# EAGLE library part MD8831_MD8832 (library m-pad)
M-System's DiskOnChip G4 128MB (1Gb)/256MB (2Gb) 1.8V Flash Disk with MLC NAND and M-Systems x2 Technology Description: DiskOnChip G4 is M-Systems' 4th generation of the DiskOnChip family of products. Based on Multi-Level Cell (MLC) NAND, utilizing Toshiba's 90nm MLC NAND Large Block flash technology and x2 technology from MSystems, it is one of the industry's most efficient storage solutions. MLC NAND flash technology provides the smallest die size by storing 2 bits of information in a single memory cell. x2 technology enables MLC NAND to achieve highly reliable, high-performance data and code storage with a specially designed error detection and correction mechanism, optimized file management, and proprietary algorithms for enhanced performance. Further cost benefits derive from the cost-effective architecture of DiskOnChip G4, which includes a boot block that can replace expensive NOR flash, and incorporates both the flash array and an embedded thin controller in a single die. Features: Flash disk for both code and data storage Low voltage: 1.8V core and I/O Hardware protection and security-enabling features High capacity: single die - 1Gb (128MB), dual die - 2Gb (256MB) Device cascade capacity: up to 4Gb (512MB) Enhanced Programmable Boot Block enabling eXecute In Place (XIP) functionality using 16-bit interface Small form factors: 69-ball FBGA 9x12 mm package Enhanced performance by implementation of: DMA support MultiBurst operation Unrivaled data integrity with a robust Error Detection Code/Error Correction Code (EDC/ECC) tailored for MLC NAND flash technology Maximized flash endurance with TrueFFS® 6.3.2 (and higher) Support for major operating systems (OSs): - Symbian OS - Microsoft Windows Mobile - Palm OS - Nucleus - Linux - OSE - Windows CE - and more Compatible with major CPUs: - TI OMAP - TI DBB - Intel XScale - Infinion - EGold and SGold - ADI 652x - Freescale MX - Qualcomm MSMxxxx. Please send any comments to: messi@users.sourceforge.net
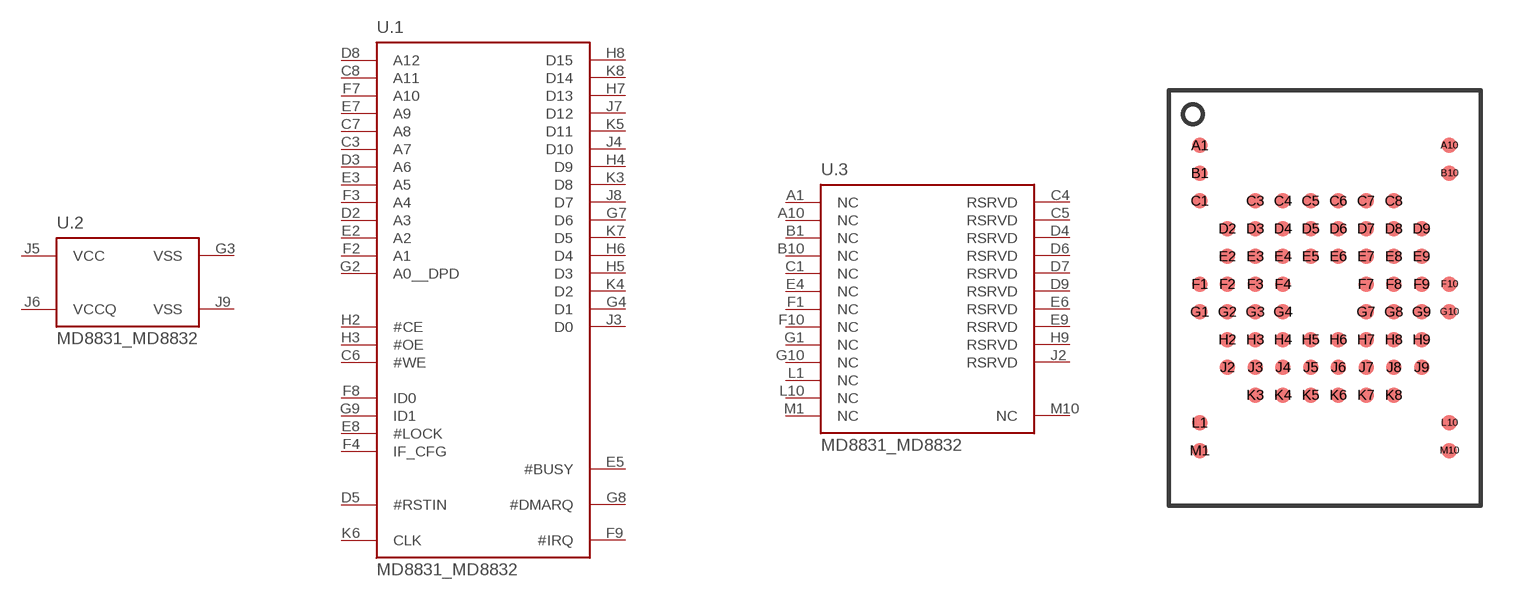
[diagram p183: symbol with the pads of 69FBGA; footprint 69FBGA]

Designator prefix U; gates .1=MD8831_MD8832 .2=MD8831_MD8832_PWR .3=MD8831_MD8832_NC

## MD8831_MD8832-D**G-V**-X-P  [69FBGA]
A1  .3:NC  nc
A10  .3:NC  nc
B1  .3:NC  nc
B10  .3:NC  nc
C1  .3:NC  nc
C3  .1:A7  in
C4  .3:RSRVD  nc
C5  .3:RSRVD  nc
C6  .1:#WE  in
C7  .1:A8  in
C8  .1:A11  in
D2  .1:A3  in
D3  .1:A6  in
D4  .3:RSRVD  nc
D5  .1:#RSTIN  in
D6  .3:RSRVD  nc
D7  .3:RSRVD  nc
D8  .1:A12  in
D9  .3:RSRVD  nc
E2  .1:A2  in
E3  .1:A5  in
E4  .3:NC  nc
E5  .1:#BUSY  out
E6  .3:RSRVD  nc
E7  .1:A9  in
E8  .1:#LOCK  in
E9  .3:RSRVD  nc
F1  .3:NC  nc
F2  .1:A1  in
F3  .1:A4  in
F4  .1:IF_CFG  in
F7  .1:A10  in
F8  .1:ID0  in
F9  .1:#IRQ  out
F10  .3:NC  nc
G1  .3:NC  nc
G2  .1:A0__DPD  in
G3  .2:VSS  pwr
G4  .1:D1
G7  .1:D6
G8  .1:#DMARQ  out
G9  .1:ID1  in
G10  .3:NC  nc
H2  .1:#CE  in
H3  .1:#OE  in
H4  .1:D9
H5  .1:D3
H6  .1:D4
H7  .1:D13
H8  .1:D15
H9  .3:RSRVD  nc
J2  .3:RSRVD  nc
J3  .1:D0
J4  .1:D10
J5  .2:VCC  pwr
J6  .2:VCCQ  pwr
J7  .1:D12
J8  .1:D7
J9  .2:VSS  pwr
K3  .1:D8
K4  .1:D2
K5  .1:D11
K6  .1:CLK  in
K7  .1:D5
K8  .1:D14
L1  .3:NC  nc
L10  .3:NC  nc
M1  .3:NC  nc
M10  .3:NC  nc

## Footprint 69FBGA (pad centres in mm)
69FBGA PAckage for the M-Systems mDoc G4
smd 0.45 x 0.45: A1 -3.6,4.4; A10 3.6,4.4; B1 -3.6,3.6; B10 3.6,3.6; C1 -3.6,2.8; C3 -2,2.8; C4 -1.2,2.8; C5 -0.4,2.8; C6 0.4,2.8; C7 1.2,2.8; C8 2,2.8; D2 -2.8,2; D3 -2,2; D4 -1.2,2; D5 -0.4,2; D6 0.4,2; D7 1.2,2; D8 2,2; D9 2.8,2; E2 -2.8,1.2; E3 -2,1.2; E4 -1.2,1.2; E5 -0.4,1.2; E6 0.4,1.2; E7 1.2,1.2; E8 2,1.2; E9 2.8,1.2; F1 -3.6,0.4; F2 -2.8,0.4; F3 -2,0.4; F4 -1.2,0.4; F7 1.2,0.4; F8 2,0.4; F9 2.8,0.4; F10 3.6,0.4; G1 -3.6,-0.4; G2 -2.8,-0.4; G3 -2,-0.4; G4 -1.2,-0.4; G7 1.2,-0.4; G8 2,-0.4; G9 2.8,-0.4; G10 3.6,-0.4; H2 -2.8,-1.2; H3 -2,-1.2; H4 -1.2,-1.2; H5 -0.4,-1.2; H6 0.4,-1.2; H7 1.2,-1.2; H8 2,-1.2; H9 2.8,-1.2; J2 -2.8,-2; J3 -2,-2; J4 -1.2,-2; J5 -0.4,-2; J6 0.4,-2; J7 1.2,-2; J8 2,-2; J9 2.8,-2; K3 -2,-2.8; K4 -1.2,-2.8; K5 -0.4,-2.8; K6 0.4,-2.8; K7 1.2,-2.8; K8 2,-2.8; L1 -3.6,-3.6; L10 3.6,-3.6; M1 -3.6,-4.4; M10 3.6,-4.4